# EAGLE library part MCP2200 (library custom)
IC USB to UART
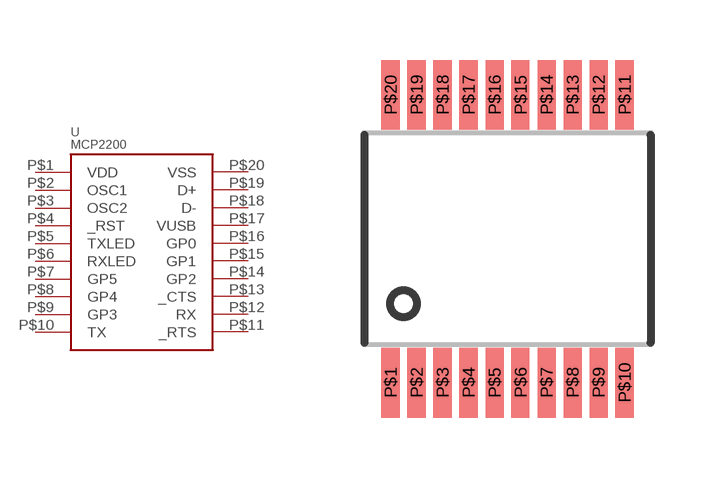
[diagram p24: symbol with the pads of 20-SSOP; footprint 20-SSOP]

Designator prefix U

## MCP2200  [20-SSOP]
P$1  VDD
P$2  OSC1
P$3  OSC2
P$4  _RST
P$5  TXLED
P$6  RXLED
P$7  GP5
P$8  GP4
P$9  GP3
P$10  TX
P$11  _RTS
P$12  RX
P$13  _CTS
P$14  GP2
P$15  GP1
P$16  GP0
P$17  VUSB
P$18  D-
P$19  D+
P$20  VSS

## Footprint 20-SSOP (pad centres in mm)
smd 0.45 x 1.75: P$1 -2.925,-3.6; P$2 -2.275,-3.6; P$3 -1.625,-3.6; P$4 -0.975,-3.6; P$5 -0.325,-3.6; P$6 0.325,-3.6; P$7 0.975,-3.6; P$8 1.625,-3.6; P$9 2.275,-3.6; P$10 2.925,-3.6; P$11 2.925,3.6; P$12 2.275,3.6; P$13 1.625,3.6; P$14 0.975,3.6; P$15 0.325,3.6; P$16 -0.325,3.6; P$17 -0.975,3.6; P$18 -1.625,3.6; P$19 -2.275,3.6; P$20 -2.925,3.6